# Altium integrated library Mt-60.IntLib: 1 symbol
Pins are listed as number, name and electrical type; pins without a type are passive.

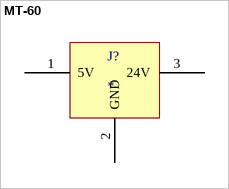
[diagram p0: symbol MT-60]

## MT-60
designator J?
LCSC part #: C99176
footprint MT-60
pins: 1 5V, 2 GND, 3 24V